# Altium schematic symbol library ERA-3AEB201V.SchLib: 1 symbol
Pins are listed as number, name and electrical type; pins without a type are passive.

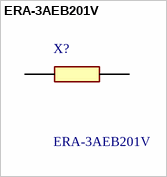
[diagram p0: symbol ERA-3AEB201V]

## ERA-3AEB201V
designator X?
Metal Thin Film Chip Resistor, 0603, 0.1W; Manufacturer_Name: Panasonic; Geometry.Height: 0.55mm; Mouser Part Number: 667-ERA-3AEB201V; Mouser Price/Stock: https://www.mouser.co.uk/ProductDetail/Panasonic/ERA-3AEB201V?qs=XhO1W%252B5LdJ8wKRfVTWbMaA%3D%3D; Manufacturer_Part_Number: ERA-3AEB201V; Datasheet Link: https://industrial.panasonic.com/cdbs/www-data/pdf/RDM0000/AOA0000C307.pdf
footprint ERA3AEB101V
pins: 1, 2